# Altium footprint library RC_Car.PcbLib: 34 footprints (part 3 of 3)
Each footprint in its own frame and in the unit in brackets; x right, y up, seen from the top. Pads: shape width x height; smd on the part's side, far side on the other; paste and mask are expansions set on the pad; w line width, h text height; cw(c..) or ccw(c..) is an arc to the next point about the centre after c.
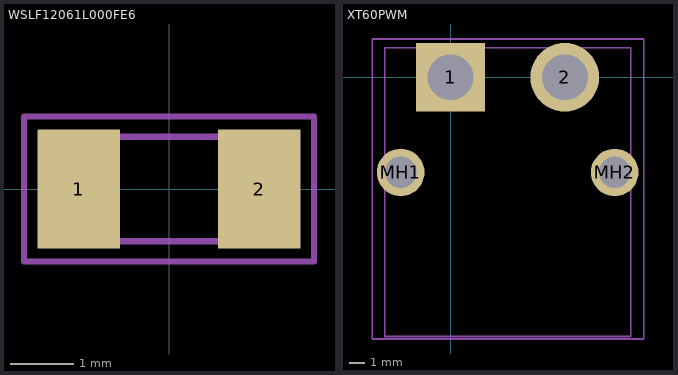
[diagram p2: the footprints below, top view; thin cyan lines are the x and y axes]

## WSLF12061L000FE6 [mm]
pads (2):
  rect 1.3x1.88 smd: 1(-1.425,0) 2(1.425,0)
Mechanical 13:
  lines w0.1: -1.6,-0.825 -1.6,0.825 1.6,0.825 1.6,-0.825 -1.6,-0.825
Mechanical 15:
  lines w0.1: -2.286,-1.143 -2.286,1.143 2.286,1.143 2.286,-1.143 -2.286,-1.143
3D body "WSLF12061L000FE6.stp": height 0.85, standoff 0, extent -1.596,-0.83 1.604,0.82

## XT60PWM [mm]
pads (4):
  rect 4.35x4.35 hole 2.9: 1(0,0)
  round 4.35 hole 2.9: 2(7.2,0)
  round 3 hole 2: MH1(-3.15,-6) MH2(10.35,-6)
Mechanical 13:
  lines w0.1: -4.15,-16.35 11.35,-16.35 11.35,1.85 -4.15,1.85 -4.15,-16.35
Mechanical 15:
  lines w0.1: -4.953,-16.51 -4.953,2.413 12.192,2.413 12.192,-16.51 -4.953,-16.51
3D body "XT60PW-M.stp": height 8.45, standoff -2.5, extent -4.35,-16.228 11.55,2.05